# Altium schematic symbol library Schlib1.SchLib: 9 symbols
Pins are listed as number, name and electrical type; pins without a type are passive.

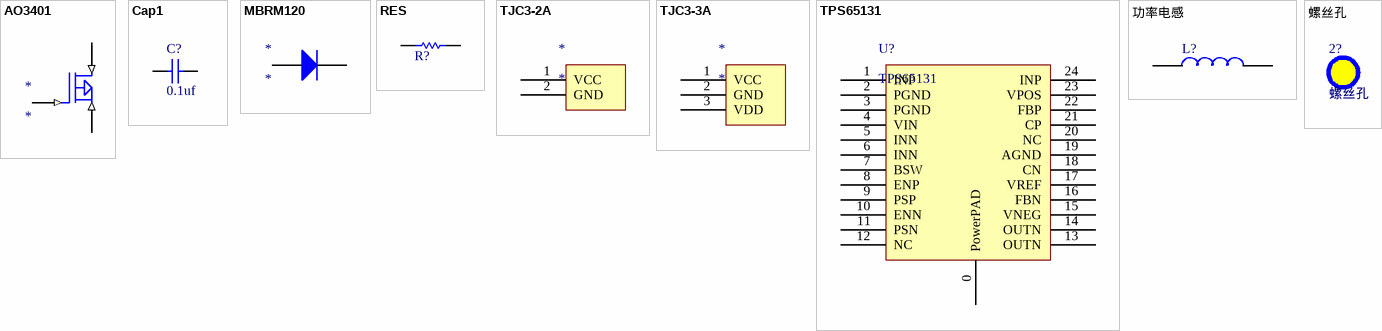
[diagram p0: symbols AO3401 to 螺丝孔]

## AO3401
designator *
footprint SOT-23
pins: 1 G (in), 2 D (in), 3 S (in)

## Cap1
designator C?  值: 0.1uf
footprint 0805
footprint 0805
footprint 安规电容
pins: 1, 2

## MBRM120
designator *
footprint SMB
pins: 1 A, 2 K

## RES
designator R?  (value not drawn)
值: 1k
footprint 0805
pins: 1, 2

## TJC3-2A
designator *
footprint TJC3-2A
pins: 1 VCC, 2 GND

## TJC3-3A
designator *
footprint TJC3-3A
pins: 1 VCC, 2 GND, 3 VDD

## TPS65131
designator U?
footprint LC-QFN-24_4x4x05P
pins: 0 PowerPAD, 1 INP, 2 PGND, 3 PGND, 4 VIN, 5 INN, 6 INN, 7 BSW, 8 ENP, 9 PSP, 10 ENN, 11 PSN, 12 NC, 13 OUTN, 14 OUTN, 15 VNEG, 16 FBN, 17 VREF, 18 CN, 19 AGND, 20 NC, 21 CP, 22 FBP, 23 VPOS, 24 INP

## 功率电感
designator L?, comment SMD  (value not drawn)
footprint 功率电感-12x12 - duplicate
pins: 1, 2

## 螺丝孔
designator 2?
footprint 固定过孔